# Altium schematic symbol library TraceCoil.SchLib: 1 symbol
Pins are listed as number, name and electrical type; pins without a type are passive.

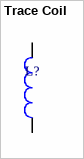
[diagram p0: symbol Trace Coil]

## Trace Coil
designator L?  (value not drawn)
roughly 4uH; trace width of 0.4mm
footprint PCBComponent_1
pins: 1, 2